# Altium footprint library PCB - LEADED - SOIC - ON SEMI - SOIC-8 751AZ.PCBLIB: 1 footprints
Each footprint in its own frame and in the unit in brackets; x right, y up, seen from the top. Pads: shape width x height; smd on the part's side, far side on the other; paste and mask are expansions set on the pad; w line width, h text height; cw(c..) or ccw(c..) is an arc to the next point about the centre after c.
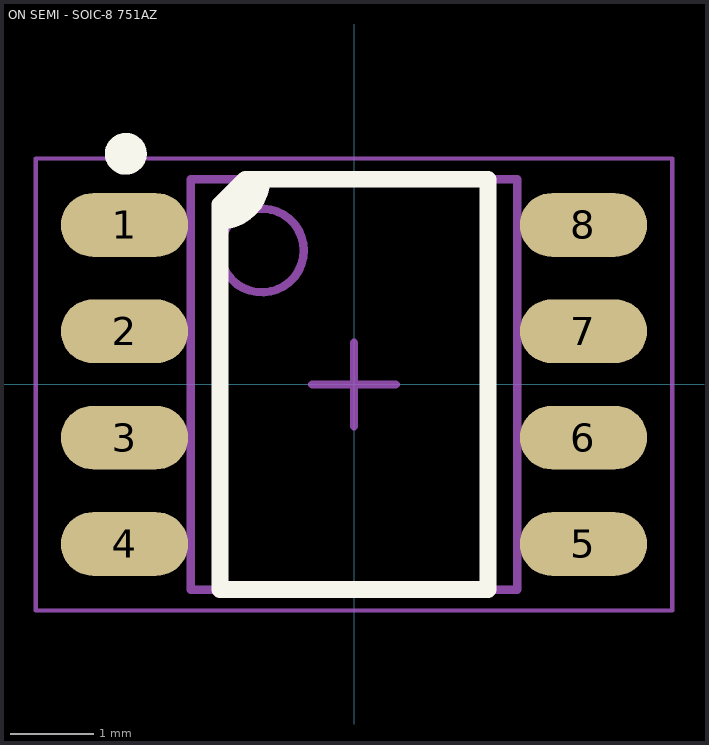
[diagram p0: the footprint, top view; thin cyan lines are the x and y axes]

## ON SEMI - SOIC-8 751AZ [mm] "SOIC, 8-Leads, Body 4.90x3.90mm, Pitch 1.27mm, IPC Medium Density"
height 1.75
pads (8):
  oval 1.52x0.76 smd: 1(-2.74,1.905) 2(-2.74,0.635) 3(-2.74,-0.635) 4(-2.74,-1.905) 5(2.74,-1.905) 6(2.74,-0.635) 7(2.74,0.635) 8(2.74,1.905)
Top Overlay:
  circle w0.25: c-2.725,2.755 r0.125
  region: -1.3,2.45 -1.1,2.45 -1.1,2.351 -1.176,2.167 -1.317,2.026 -1.501,1.95 -1.6,1.95
  lines w0.2: -1.6,1.95 ccw(c-1.6,2.45) -1.1,2.45 ; -1.6,-2.45 1.6,-2.45 1.6,2.45 -1.3,2.45 -1.6,2.15 -1.6,-2.45
Mechanical 13:
  circle w0.1: c-1.1,1.6 r0.5
  lines w0.1: -1.95,-2.45 1.95,-2.45 1.95,2.45 -1.95,2.45 -1.95,-2.45
Mechanical 15:
  lines w0.05: -3.8,-2.7 -3.8,2.7 3.8,2.7 3.8,-2.7 -3.8,-2.7
Mechanical 2 (Mech9):
  lines w0.1: -0.5,0 0.5,0 ; 0,-0.5 0,0.5
3D body "ON Semi - SOIC-8 751AZ.step": height 1.75, standoff 0, extent -3,-2.45 3,2.45